# EAGLE library part EFM32GG11B5XX_Q64 (library Semiconductors > Embedded Processors & Controllers > Microcontrollers - MCU)
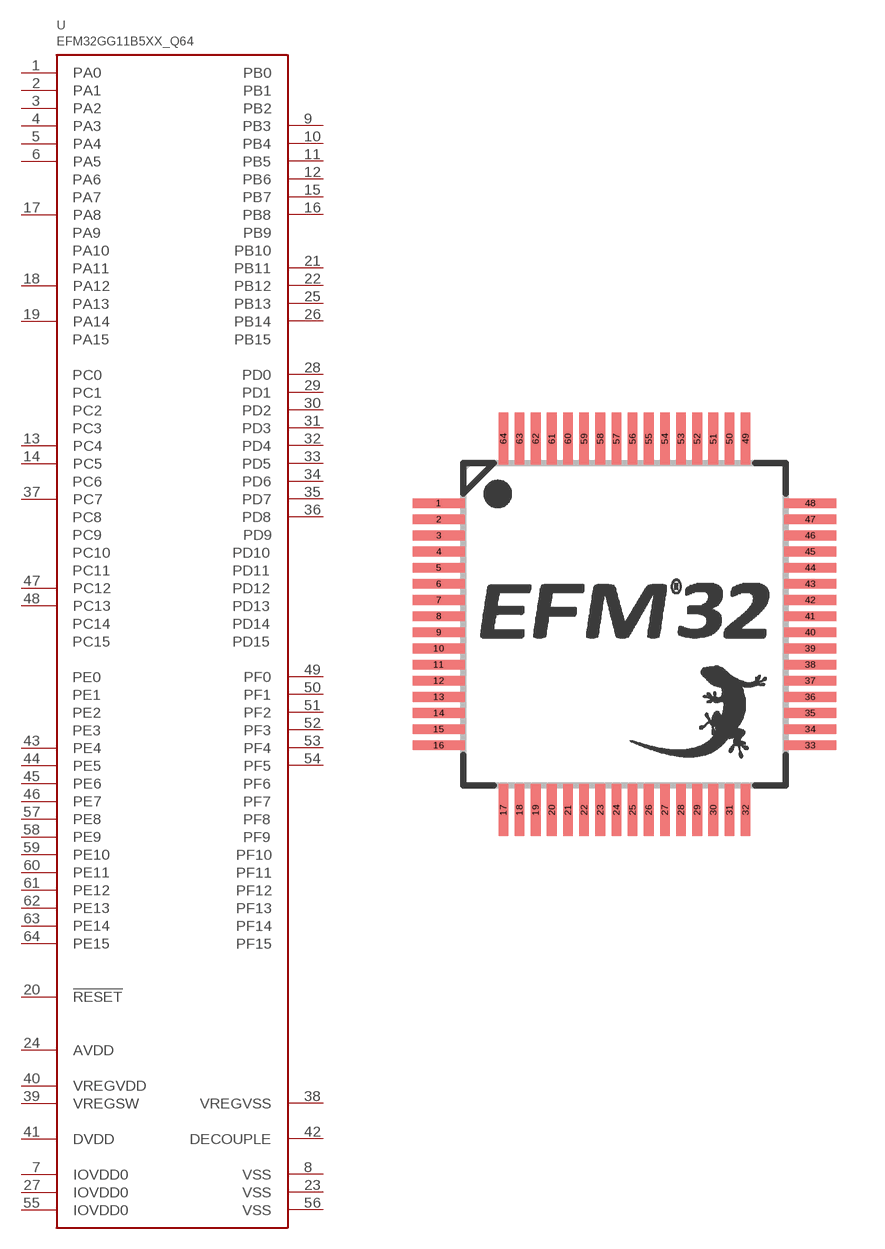
[diagram p1: symbol with the pads of QFP64-EFM; footprint QFP64-EFM]

Designator prefix U

## EFM32GG11B5XX_Q64  [QFP64-EFM]
1  PA0
2  PA1
3  PA2
4  PA3
5  PA4
6  PA5
7  IOVDD0
8  VSS
9  PB3
10  PB4
11  PB5
12  PB6
13  PC4
14  PC5
15  PB7
16  PB8
17  PA8
18  PA12
19  PA14
20  !RESET
21  PB11
22  PB12
23  VSS
24  AVDD
25  PB13
26  PB14
27  IOVDD0
28  PD0
29  PD1
30  PD2
31  PD3
32  PD4
33  PD5
34  PD6
35  PD7
36  PD8
37  PC7
38  VREGVSS
39  VREGSW
40  VREGVDD
41  DVDD
42  DECOUPLE
43  PE4
44  PE5
45  PE6
46  PE7
47  PC12
48  PC13
49  PF0
50  PF1
51  PF2
52  PF3
53  PF4
54  PF5
55  IOVDD0
56  VSS
57  PE8
58  PE9
59  PE10
60  PE11
61  PE12
62  PE13
63  PE14
64  PE15

## Footprint QFP64-EFM (pad centres in mm)
smd 1.6 x 0.3: 1 -5.75,3.75; 2 -5.75,3.25; 3 -5.75,2.75; 4 -5.75,2.25; 5 -5.75,1.75; 6 -5.75,1.25; 7 -5.75,0.75; 8 -5.75,0.25; 9 -5.75,-0.25; 10 -5.75,-0.75; 11 -5.75,-1.25; 12 -5.75,-1.75; 13 -5.75,-2.25; 14 -5.75,-2.75; 15 -5.75,-3.25; 16 -5.75,-3.75; 33 5.75,-3.75; 34 5.75,-3.25; 35 5.75,-2.75; 36 5.75,-2.25; 37 5.75,-1.75; 38 5.75,-1.25; 39 5.75,-0.75; 40 5.75,-0.25; 41 5.75,0.25; 42 5.75,0.75; 43 5.75,1.25; 44 5.75,1.75; 45 5.75,2.25; 46 5.75,2.75; 47 5.75,3.25; 48 5.75,3.75
smd 0.3 x 1.6: 17 -3.75,-5.75; 18 -3.25,-5.75; 19 -2.75,-5.75; 20 -2.25,-5.75; 21 -1.75,-5.75; 22 -1.25,-5.75; 23 -0.75,-5.75; 24 -0.25,-5.75; 25 0.25,-5.75; 26 0.75,-5.75; 27 1.25,-5.75; 28 1.75,-5.75; 29 2.25,-5.75; 30 2.75,-5.75; 31 3.25,-5.75; 32 3.75,-5.75; 49 3.75,5.75; 50 3.25,5.75; 51 2.75,5.75; 52 2.25,5.75; 53 1.75,5.75; 54 1.25,5.75; 55 0.75,5.75; 56 0.25,5.75; 57 -0.25,5.75; 58 -0.75,5.75; 59 -1.25,5.75; 60 -1.75,5.75; 61 -2.25,5.75; 62 -2.75,5.75; 63 -3.25,5.75; 64 -3.75,5.75